# Altium footprint library G103 Rev4.2E.PcbLib: 64 footprints (part 1 of 4)
Each footprint in its own frame and in the unit in brackets; x right, y up, seen from the top. Pads: shape width x height; smd on the part's side, far side on the other; paste and mask are expansions set on the pad; w line width, h text height; cw(c..) or ccw(c..) is an arc to the next point about the centre after c.
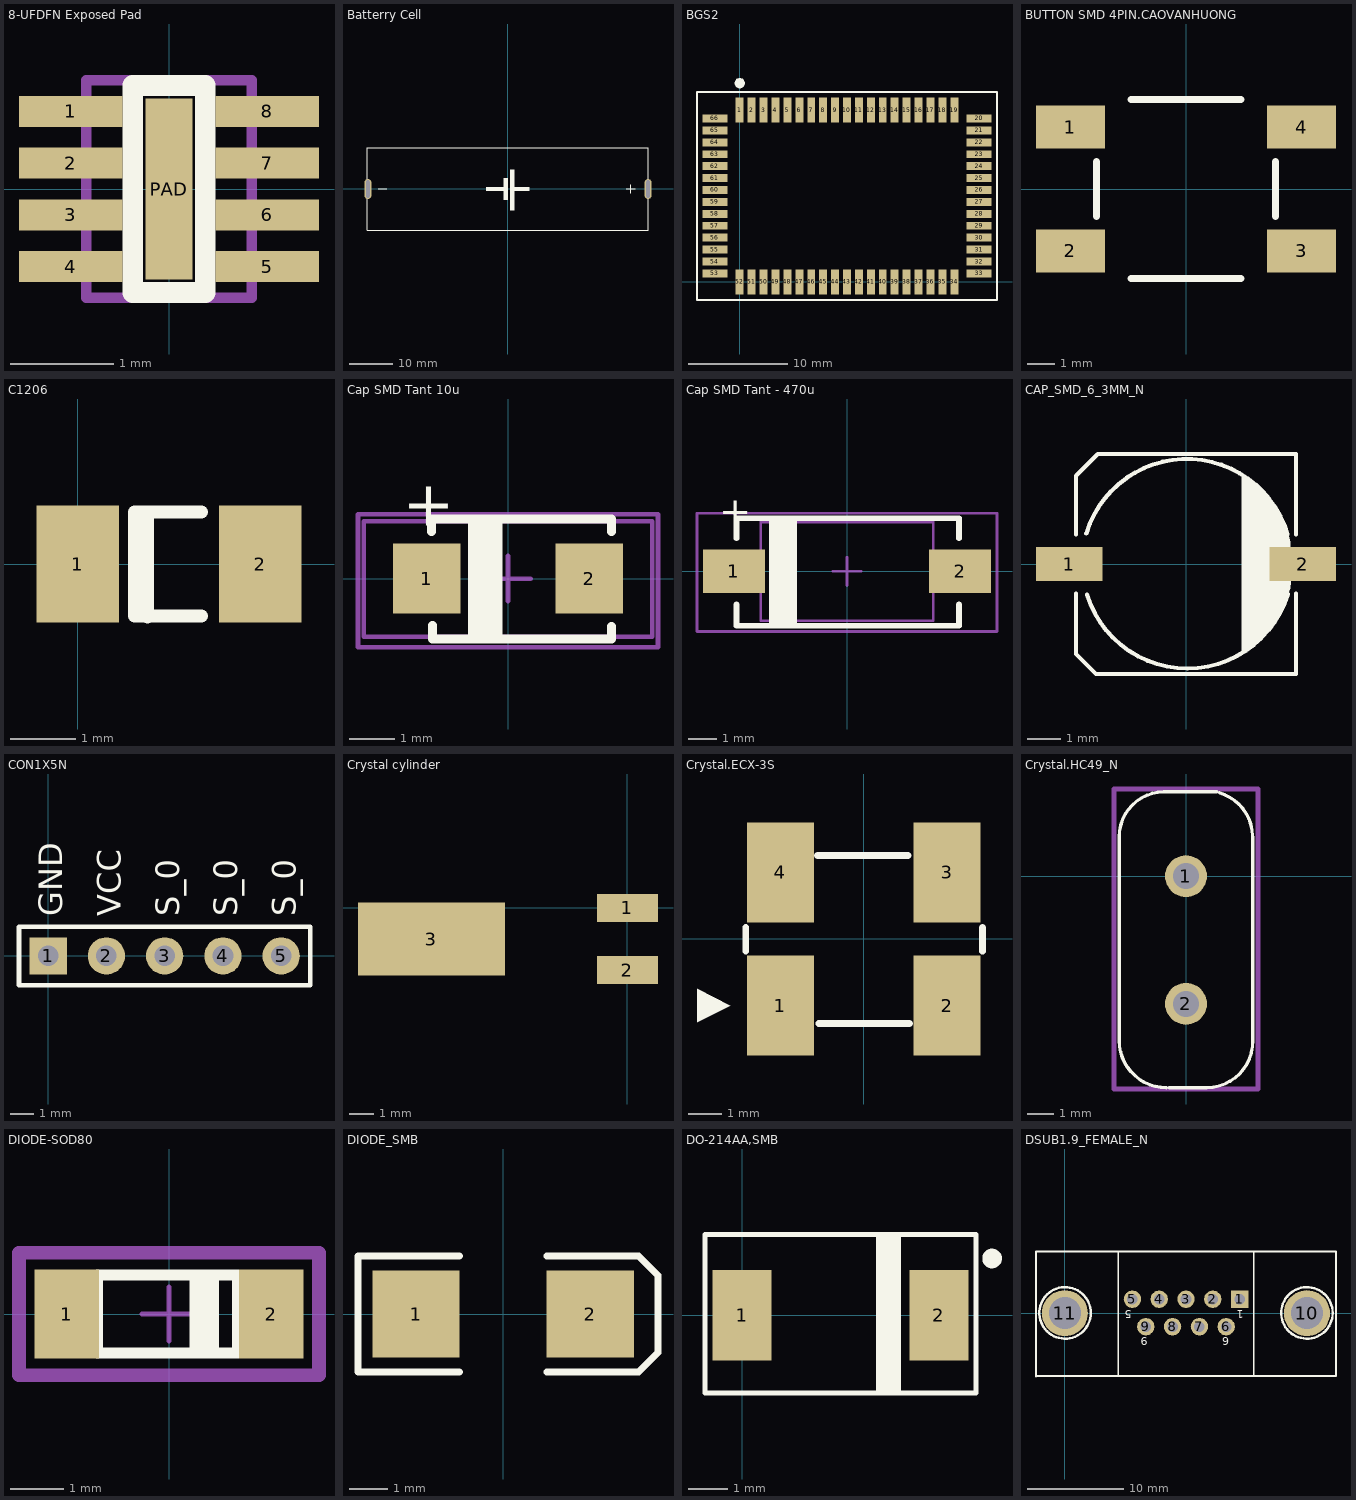
[diagram p0: the footprints below, top view; thin cyan lines are the x and y axes]

## 8-UFDFN Exposed Pad [mm]
height 0.005
pads (9):
  rect 1x0.3 smd: 1(-0.95,0.75) 2(-0.95,0.25) 3(-0.95,-0.25) 4(-0.95,-0.75) 5(0.95,-0.75) 6(0.95,-0.25) 7(0.95,0.25) 8(0.95,0.75)
  rect 0.45x1.75 smd: PAD(0,0)
Top Overlay:
  lines w0.2: -0.35,-1 -0.35,1 ; 0.35,-1 0.35,1
  lines w0.203: -0.35,-1 0.35,-1 ; -0.35,1 0.35,1
  text "." at -1.4,1.325 h0.6
Mechanical 1:
  lines w0.1: -0.8,-1.05 -0.8,1.05 0.8,1.05 0.8,-1.05 -0.8,-1.05
Mechanical 13:
  text ".Designator" at -0.196,-0.416 h2.03

## Batterry Cell [mm]
pads (2):
  oval 1.6x4.6 hole 0.762 slot 4 at 90 deg: 1(32.5,0) 2(-32.4,0)
Top Overlay:
  region: 5,0.5 1.5,0.5 1.5,-0.5 5,-0.5
  region: -1,0.5 -5,0.5 -5,-0.5 -1,-0.5
  region: 0,2.5 -1,2.5 -1,-2.5 0,-2.5
  region: 1.5,4.5 0.5,4.5 0.5,-5 1.5,-5
  lines w0.2: -32.5,-2 -32.5,-9.5 -30,-9.5 32.5,-9.5 32.5,-2 ; -32.5,2 -32.5,9.5 32.5,9.5 32.5,2 ; -30,0 -28,0 ; 27.5,0 29.5,0 ; 28.5,-1 28.5,1
3D body: height 19.01, standoff 0.99, extent -32,-9.01 31.5,9.01
3D body: height 18.41, standoff 1.59, extent -32.05,-8.41 -31.05,8.409
3D body: height 13.25, standoff -1.25, extent -32.25,-2.499 -32.05,2.5
3D body: height 13.25, standoff -1.25, extent 32.15,-2.499 32.35,2.5
3D body: height 15.32, standoff 4.68, extent 31.2,-5.32 32.2,5.319

## BGS2 [mm]
height 0.005
pads (66):
  rect 0.8x2.5 smd: 1(0,17.3) 2(1.2,17.3) 3(2.4,17.3) 4(3.6,17.3) 5(4.8,17.3) 6(6,17.3) 7(7.2,17.3) 8(8.4,17.3) 9(9.6,17.3) 10(10.8,17.3) 11(12,17.3) 12(13.2,17.3) 13(14.4,17.3) 14(15.6,17.3) 15(16.8,17.3) 16(18,17.3) 17(19.2,17.3) 18(20.4,17.3) 19(21.6,17.3) 34(21.6,0) 35(20.4,0) 36(19.2,0) 37(18,0) 38(16.8,0) 39(15.6,0) 40(14.4,0) 41(13.2,0) 42(12,0) 43(10.8,0) 44(9.6,0) 45(8.4,0) 46(7.2,0) 47(6,0) 48(4.8,0) 49(3.6,0) 50(2.4,0) 51(1.2,0) 52(0,0)
  rect 2.5x0.8 smd: 20(24.1,16.45) 21(24.1,15.25) 22(24.1,14.05) 23(24.1,12.85) 24(24.1,11.65) 25(24.1,10.45) 26(24.1,9.25) 27(24.1,8.05) 28(24.1,6.85) 29(24.1,5.65) 30(24.1,4.45) 31(24.1,3.25) 32(24.1,2.05) 33(24.1,0.85) 53(-2.5,0.85) 54(-2.5,2.05) 55(-2.5,3.25) 56(-2.5,4.45) 57(-2.5,5.65) 58(-2.5,6.85) 59(-2.5,8.05) 60(-2.5,9.25) 61(-2.5,10.45) 62(-2.5,11.65) 63(-2.5,12.85) 64(-2.5,14.05) 65(-2.5,15.25) 66(-2.5,16.45)
Top Overlay:
  region: -0.5,20 -0.5,19.901 -0.424,19.717 -0.283,19.576 -0.099,19.5 0,19.5 0.099,19.5 0.283,19.576 0.424,19.717 0.5,19.901 0.5,20 0.5,20.099 0.424,20.283 0.283,20.424 0.099,20.5 0,20.5 -0.099,20.5 -0.283,20.424 -0.424,20.283 -0.5,20.099
  lines w0.2: -4.3,-1.8 -4.3,19.1 25.9,19.1 25.9,-1.8 -4.3,-1.8
3D body: height 3, standoff 1, extent -2.301,-0.001 23.901,17.301
3D body: height 1, standoff 0, extent -2.999,-0.699 24.6,18.1

## BUTTON SMD 4PIN.CAOVANHUONG [mm]
height 0.005
pads (4):
  rect 2.5x1.57 smd: 1(-4.2,2.25) 2(-4.2,-2.25) 3(4.2,-2.25) 4(4.2,2.25)
Top Overlay:
  lines w0.254: -3.25,-1 -3.25,1 ; -2,-3.25 2,-3.25 ; -2,3.25 2,3.25 ; 3.25,-1 3.25,1
3D body "User Library-Push Button SMD.STEP": height 5.1, standoff -0.01, extent -5,-3 5,3

## C1206 [mm] "Chip Capacitor; Body 3.2 x 1.6 mm (LxW typ)"
height 1.35
pads (2):
  rect 1.27x1.8 smd: 1(0,0) 2(2.8,0)
Top Overlay:
  lines w0.2: 1.069,-0.81 1.069,0.79 ; 1.899,-0.8 0.874,-0.8 0.874,0.8 1.899,0.8

## Cap SMD Tant 10u [mm] "CAP TANT 10UF 16V 10% 1210"
height 2.4
pads (2):
  rect 1.5x1.55 smd: 1(-1.8,0) 2(1.8,0)
Top Overlay:
  rectangle: -0.889,-1.396 -0.127,1.372
  lines w0.2: -1.702,1.041 -1.702,1.321 2.3,1.321 2.3,1.041 ; -1.676,-1.041 -1.676,-1.346 2.3,-1.346 2.3,-1.067
  text "+" at -2.337,1.168 h1
Mechanical 13:
  lines w0.1: -3.2,-1.295 -3.2,1.27 3.2,1.27 3.2,-1.295 -3.2,-1.295
Mechanical 15:
  lines w0.1: -0.5,0 0.5,0 ; 0,-0.5 0,0.5 ; -3.327,-1.524 -3.327,1.422 3.327,1.422 3.327,-1.524 -3.327,-1.524
3D body "Solid Tantalum Chip Capacitor.STEP": height 1.8, standoff -0.04, extent -2.398,-0.914 2.398,0.889

## Cap SMD Tant - 470u [mm] "CAP TANT 10UF 50V 10% 2917"
height 2.4
pads (2):
  rect 2.2x1.55 smd: 1(-4,0) 2(4,0)
Top Overlay:
  rectangle: -2.768,-1.93 -1.777,1.905
  lines w0.2: -3.912,-1.175 -3.912,-1.93 3.962,-1.93 3.962,-1.175 ; -3.912,1.175 -3.912,1.88 3.962,1.88 3.962,1.175
  text "+" at -4.521,1.651 h1
Mechanical 13:
  lines w0.1: -5.309,-2.134 -5.309,2.057 5.309,2.057 5.309,-2.134 -5.309,-2.134
Mechanical 15:
  lines w0.1: -0.5,0 0.5,0 ; 0,-0.5 0,0.5 ; -3.05,-1.75 -3.05,1.75 3.05,1.75 3.05,-1.75 -3.05,-1.75
3D body "Solid Tantalum Chip Capacitor C6032.STEP": height 2.79, standoff -0.04, extent -3.759,-1.778 3.838,1.735

## CAP_SMD_6_3MM_N [mm] "47uF 25V"
height 0.005
pads (2):
  rect 2x1.016 smd: 1(-3.5,0) 2(3.5,0)
Top Overlay:
  region: 3.15,-0.55 3.125,-0.725 3.05,-0.925 2.9,-1.325 2.725,-1.675 2.525,-1.95 1.9,-2.55 1.675,-2.675 1.675,2.675 2.15,2.35 2.475,1.975 2.775,1.525 3.05,0.975 3.125,0.65 3.15,0.375
  lines w0.127: -3.302,-0.889 -3.302,-2.698 -2.698,-3.302 3.302,-3.302 3.302,-0.889 ; -3.302,0.889 -3.302,2.648 -2.648,3.302 3.302,3.302 3.302,0.889 ; -2.991,0.915 cw(c0.024,0) 3.047,0.889 ; -2.972,-0.914 ccw(c0.039,0.015) 3.053,-0.899
3D body "Capacitor size D.STEP": height 5.41, standoff -0.01, extent -3.551,-3.302 3.449,3.298

## CON1X5N [mil]
height 0.2
pads (5):
  rect 64x64 hole 35.43: 1(0,0)
  round 64 hole 35.43: 2(100,0) 3(200,0) 4(300,0) 5(400,0)
Top Overlay:
  lines w7.87: -50,-50 450,-50 450,50 -50,50 -50,-50
  text "S_0" at 424.82,68.04 h40
  text "S_0" at 324.74,68.04 h40
  text "S_0" at 224.67,68.04 h40
  text "VCC" at 124.59,68.04 h40
  text "GND" at 24.52,68.04 h40
  text "." at -82.65,71.04 h25
Bottom Overlay:
  text "." at -83,70 h25
Mechanical 13:
  text ".Designator" at 99,-24 h80
3D body: height 350, standoff -100, extent 289.84,-10 309.84,10
3D body: height 350, standoff -100, extent 390,-10 410,10
3D body: height 100, standoff 10, extent 250,-50 450,50
3D body: height 350, standoff -100, extent 190,-10 210,10
3D body: height 100, standoff 10, extent 150,-50 350,50
3D body: height 350, standoff -100, extent 90,-10 110,10
3D body: height 100, standoff 10, extent 50,-50 250,50
3D body: height 350, standoff -100, extent -10,-10 10,10
3D body: height 100, standoff 10, extent -50,-50 150,50
3D body: height 350, standoff -100, extent -10,-10 10,10
3D body: height 350, standoff -100, extent 90,-10 110,10
3D body: height 350, standoff -100, extent 190,-10 210,10
3D body: height 350, standoff -100, extent 290,-10 310,10
3D body: height 350, standoff -100, extent 390,-10 410,10

## Crystal cylinder [mm] "Crystal footsprint type 1"
height 5.08
pads (3):
  rect 2.5x1.143 smd: 1(0,0) 2(0,-2.54)
  rect 6x3 smd: 3(-8,-1.27)
3D body "Crystal cylinder.STEP": height 2, standoff 0, extent -9.333,-2.75 -0.356,0.305

## Crystal.ECX-3S [mm] "Quartz Crystal, SM; 4 Leads; Body 7 x 5 x 1.6mm (LxWxH)"
height 1.6
pads (4):
  rect 2x3 smd: 1(-2.5,-2) 2(2.5,-2) 3(2.5,2) 4(-2.5,2)
Top Overlay:
  region: -5.005,-1.487 -5.005,-2.492 -4,-2.01
  lines w0.203: -3.539,-0.356 -3.539,0.355 ; -1.389,2.505 1.333,2.505 ; -1.347,-2.534 1.374,-2.534 ; 3.566,-0.37 3.566,0.342
3D body "osc_CFPS72-73.STEP": height 1.51, standoff -0.01, extent -3.475,-2.511 3.525,2.489

## Crystal.HC49_N [mm] "HC49USxx package"
height 5.08
pads (2):
  rrect100% 1.6x1.6 hole 1: 1(0,0) 2(0,-4.877)
Top Overlay:
  lines w0.127: -2.55,1.496 cw(c-0.838,1.508) -0.85,3.221 1.175,3.221 ; -2.55,1.504 -2.55,-6.279 ccw(c-0.75,-6.279) -0.75,-8.079 ; -0.65,-8.079 0.8,-8.079 ccw(c0.775,-6.304) 2.55,-6.279 2.55,1.508 ; 1.28,3.181 cw(c0.795,1.508) 2.537,1.538
Mechanical 13:
  lines w0.2: -2.75,-8.128 -2.75,3.327 2.75,3.327 2.75,-8.128 -2.75,-8.128
  text ".Designator" at 0.432,-4.013 h2.03
3D body "HP49US.STEP": height 4, standoff -3.5, extent -2.286,-8.113 2.364,3.237

## DIODE-SOD80 [mm] "4148-SOD80 Diode, 2-Leads, Body 3.4x1.4mm, IPC Medium Density"
height 1.5
pads (2):
  rect 1.2x1.65 smd: 1(-1.905,0) 2(1.905,0)
Top Overlay:
  rectangle: 0.381,-0.762 0.931,0.713
  lines w0.2: -1.325,-0.725 -1.325,0.725 1.27,0.725 1.27,-0.725 -1.325,-0.725
Mechanical 12:
  lines w0.254: -2.794,-1.143 2.794,-1.143 2.794,1.143 -2.794,1.143 -2.794,-1.143
Mechanical 13:
  lines w0.1: -1.8,-0.75 -1.8,0.75 1.8,0.75 1.8,-0.75 -1.8,-0.75
Mechanical 15:
  lines w0.1: -0.5,0 0.5,0 ; 0,-0.5 0,0.5 ; -2.794,-1.075 -2.794,1.075 2.794,1.075 2.794,-1.075 -2.794,-1.075
3D body "User Library-melf-2.step": height 1.6, standoff 0, extent -1.85,-0.75 1.85,0.85

## DIODE_SMB [mil]
height 0.2
pads (2):
  rect 90x90 smd: 1(-90,0) 2(90,0)
Top Overlay:
  lines w7: -45,-60 -150,-60 -150,60 -45,60 ; 45,-60 140,-60 160,-40 160,40 140,60 45,60
3D body "User Library-DO-214AC(SMA).step": height 90, standoff 0, extent -113,-55 103,55

## DO-214AA,SMB [mm] "5.6mmx3.9mm"
height 2.5
pads (2):
  rect 1.5x2.3 smd: 1(0,0) 2(5,0)
Top Overlay:
  circle w0.25: c6.352,1.448 r0.125
  rectangle: 3.404,-1.991 4.039,2.054
  lines w0.127: -0.95,-1.971 5.944,-1.971 5.944,2.064 -0.95,2.064 -0.95,-1.971
3D body "DO-214AA SMB.STEP": height 2.3, standoff 0, extent -0.185,-1.778 5.215,1.822

## DSUB1.9_FEMALE_N [mm] "7906 Series DSUB Right Angle Socket; Body Width, 30.81mm, 9 Positions"
height 0.005
pads (11):
  rect 1.8x1.8 hole 1.1: 1(18.065,1.47)
  round 1.8 hole 1.1: 2(15.295,1.47) 3(12.525,1.47) 4(9.755,1.47) 5(6.985,1.47) 6(16.68,-1.37) 7(13.91,-1.37) 8(11.14,-1.37) 9(8.37,-1.37)
  round 4.76 hole 3.3: 10(25.022,0.024) 11(0.003,0.024)
Top Overlay:
  circle w0.254: c25.02,0.05 r2.659
  circle w0.254: c0.03,0.05 r2.659
  lines w0.2: -2.975,-6.515 -2.975,6.4 28.025,6.4 28.025,-6.45 ; -2.875,-6.45 27.925,-6.45 ; 5.525,-6.45 5.525,6.4 ; 19.525,-6.45 19.525,6.35
  text "1" at 18.494,0.329 h0.81
  text "5" at 6.937,0.329 h0.81
  text "9" at 8.588,-2.465 h0.81
  text "6" at 16.97,-2.465 h0.81
Mechanical 13:
  text ".Designator" at 16.741,0.177 h0.81
3D body "SW3dPS-Norcomp_171-009-213R911_DB9Recept_VerticalMount.STEP": height 13.4, standoff -4.46, extent -2.88,-6.224 27.93,6.324